# EAGLE library part 830-10-006-20-005000 (library 830-10-006-20-005000)
Check prices <https://pricing.snapeda.com/parts/2355104-4/TE%20Connectivity/view-part?ref=eda>
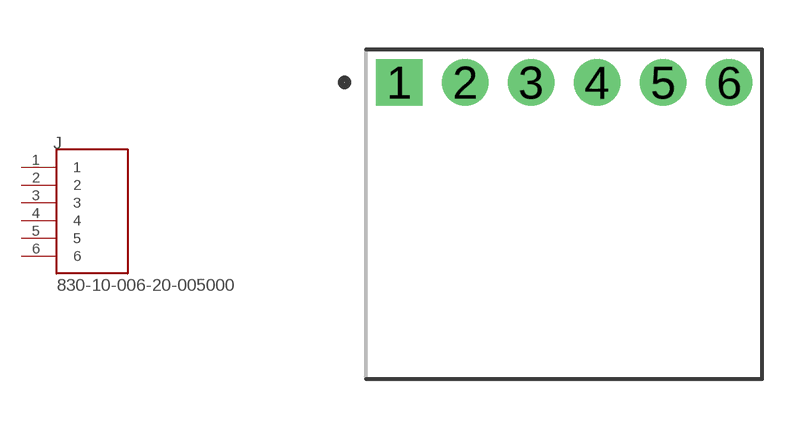
[diagram p0: symbol with the pads of 830-10-006-20-005000; footprint 830-10-006-20-005000]

Designator prefix J

## 830-10-006-20-005000 (AVAILABILITY: In Stock; COMMENT: 2355104-4; DESCRIPTION: Pin 4P,2MM,BRK HDR,SRVT,2.8,0.1AU,TB W/CAP 4 POS; MF: TE Connectivity; MP: 2355104-4; PACKAGE: None; PRICE: None; PURCHASE-URL: https://pricing.snapeda.com/search/part/2355104-4/?ref=eda)  [830-10-006-20-005000]
1  1  pas
2  2  pas
3  3  pas
4  4  pas
5  5  pas
6  6  pas

## Footprint 830-10-006-20-005000 (pad centres in mm)
drill 0.9 pad 1.25 square: 1 0,0
drill 0.9 pad 1.25: 2 2,0; 3 4,0; 4 6,0; 5 8,0; 6 10,0